# Altium integrated library MCP6292-E_P.IntLib: 1 symbol
Pins are listed as number, name and electrical type; pins without a type are passive.

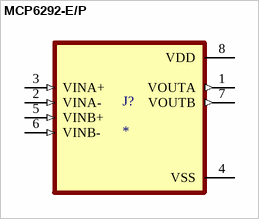
[diagram p0: symbol MCP6292-E/P]

## MCP6292-E/P
designator J?
General Purpose Amplifier 2 Circuit Rail-to-Rail 8-PDIP; MF: Microchip Technology; MP: MCP6292-E/P; Package: DIP-8 Microchip; Price: None; Check_prices: https://www.snapeda.com/parts/MCP6292-E/P/Microchip/view-part/?ref=eda; Value: *; SnapEDA_Link: https://www.snapeda.com/parts/MCP6292-E/P/Microchip/view-part/?ref=snap; Availability: In Stock; Purchase-URL: https://pricing.snapeda.com/search/part/MCP6292-E/P/?ref=eda
footprint DIP787W46P254L927H533Q8
pins: 1 VOUTA (out), 2 VINA- (in), 3 VINA+ (in), 4 VSS (power), 5 VINB+ (in), 6 VINB- (in), 7 VOUTB (out), 8 VDD (power)